# Altium footprint library Memory.PcbLib: 1 footprints
Each footprint in its own frame and in the unit in brackets; x right, y up, seen from the top. Pads: shape width x height; smd on the part's side, far side on the other; paste and mask are expansions set on the pad; w line width, h text height; cw(c..) or ccw(c..) is an arc to the next point about the centre after c.
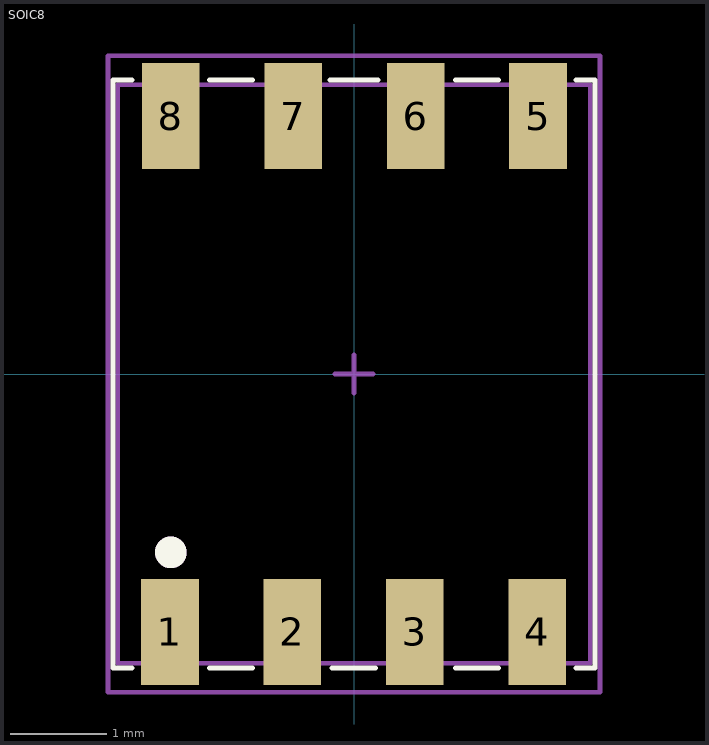
[diagram p0: the footprint, top view; thin cyan lines are the x and y axes]

## SOIC8 [mm]
pads (8):
  rect 0.6x1.1 smd mask+0.05: 1(-1.91,-2.675) 2(-0.64,-2.675) 3(0.63,-2.675) 4(1.9,-2.675) 5(1.91,2.675) 6(0.64,2.675) 7(-0.63,2.675) 8(-1.9,2.675)
Top Overlay:
  circle w0.254: c-1.9,-1.85 r0.037
  lines w0.05: -2.3,-3.05 -2.5,-3.05 -2.5,3.05 -2.3,3.05 ; -1.5,-3.05 -1.05,-3.05 ; -1.5,3.05 -1.05,3.05 ; -0.25,3.05 0.25,3.05 ; -0.228,-3.05 0.222,-3.05 ; 1.05,-3.05 1.5,-3.05 ; 1.05,3.05 1.5,3.05 ; 2.3,-3.05 2.5,-3.05 2.5,3.05 2.3,3.05
Top 3D Body:
  lines w0.05: -2.45,-3 -2.45,3 2.45,3 2.45,-3 -2.45,-3
Top Component Center:
  circle w0.254: c-1.9,-1.85 r0.037
  lines w0.05: -0.2,0 0.2,0 ; 0,-0.2 0,0.2 ; -2.55,-3.3 2.55,-3.3 2.55,3.3 -2.55,3.3 -2.55,-3.3
Top Designator:
  lines w0.05: -2.55,-3.3 -2.55,3.3 2.55,3.3 2.55,-3.3 -2.55,-3.3
  text ".Designator" at -0.2,0.067 h0.5
3D body "ISL12026AIBZ-T.STEP": height 1.75, standoff 0, extent -2.455,-3.008 2.445,2.992